# EAGLE library part XC9536XL-VQ44 (library Xilinx)
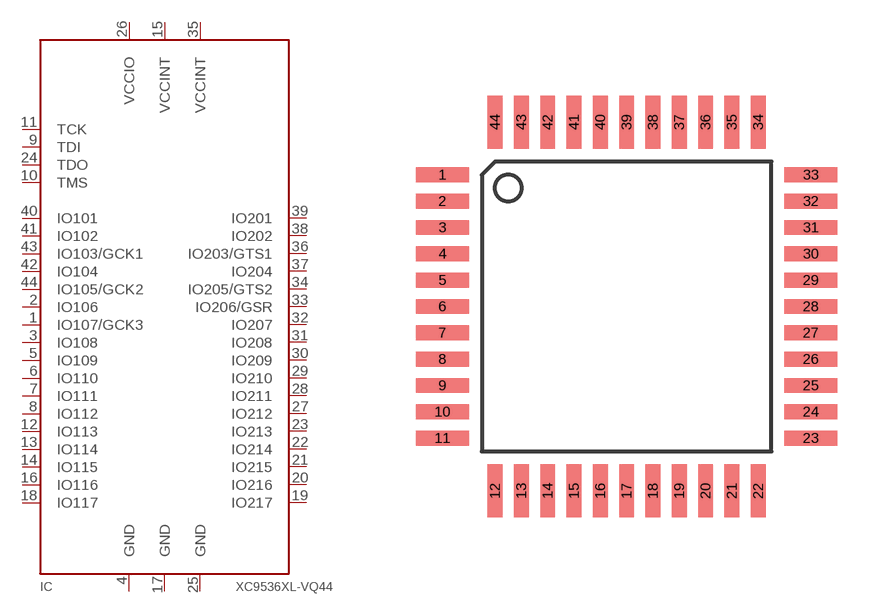
[diagram p23: symbol with the pads of VQ44; footprint VQ44]

Designator prefix IC

## XC9536XL-VQ44  [VQ44]
1  IO107/GCK3
2  IO106
3  IO108
4  GND  pwr
5  IO109
6  IO110
7  IO111
8  IO112
9  TDI  in
10  TMS  in
11  TCK  in
12  IO113
13  IO114
14  IO115
15  VCCINT  pwr
16  IO116
17  GND  pwr
18  IO117
19  IO217
20  IO216
21  IO215
22  IO214
23  IO213
24  TDO  in
25  GND  pwr
26  VCCIO  pwr
27  IO212
28  IO211
29  IO210
30  IO209
31  IO208
32  IO207
33  IO206/GSR
34  IO205/GTS2
35  VCCINT  pwr
36  IO203/GTS1
37  IO204
38  IO202
39  IO201
40  IO101
41  IO102
42  IO104
43  IO103/GCK1
44  IO105/GCK2

## Footprint VQ44 (pad centres in mm)
VQFP 44
smd 1.6 x 0.45: 1 -5.6,4; 2 -5.6,3.2; 3 -5.6,2.4; 4 -5.6,1.6; 5 -5.6,0.8; 6 -5.6,0; 7 -5.6,-0.8; 8 -5.6,-1.6; 9 -5.6,-2.4; 10 -5.6,-3.2; 11 -5.6,-4; 23 5.6,-4; 24 5.6,-3.2; 25 5.6,-2.4; 26 5.6,-1.6; 27 5.6,-0.8; 28 5.6,0; 29 5.6,0.8; 30 5.6,1.6; 31 5.6,2.4; 32 5.6,3.2; 33 5.6,4
smd 0.45 x 1.6: 12 -4,-5.6; 13 -3.2,-5.6; 14 -2.4,-5.6; 15 -1.6,-5.6; 16 -0.8,-5.6; 17 0,-5.6; 18 0.8,-5.6; 19 1.6,-5.6; 20 2.4,-5.6; 21 3.2,-5.6; 22 4,-5.6; 34 4,5.6; 35 3.2,5.6; 36 2.4,5.6; 37 1.6,5.6; 38 0.8,5.6; 39 0,5.6; 40 -0.8,5.6; 41 -1.6,5.6; 42 -2.4,5.6; 43 -3.2,5.6; 44 -4,5.6